# Altium schematic symbol library ECE453_S24.SchLib: 15 symbols
Pins are listed as number, name and electrical type; pins without a type are passive.

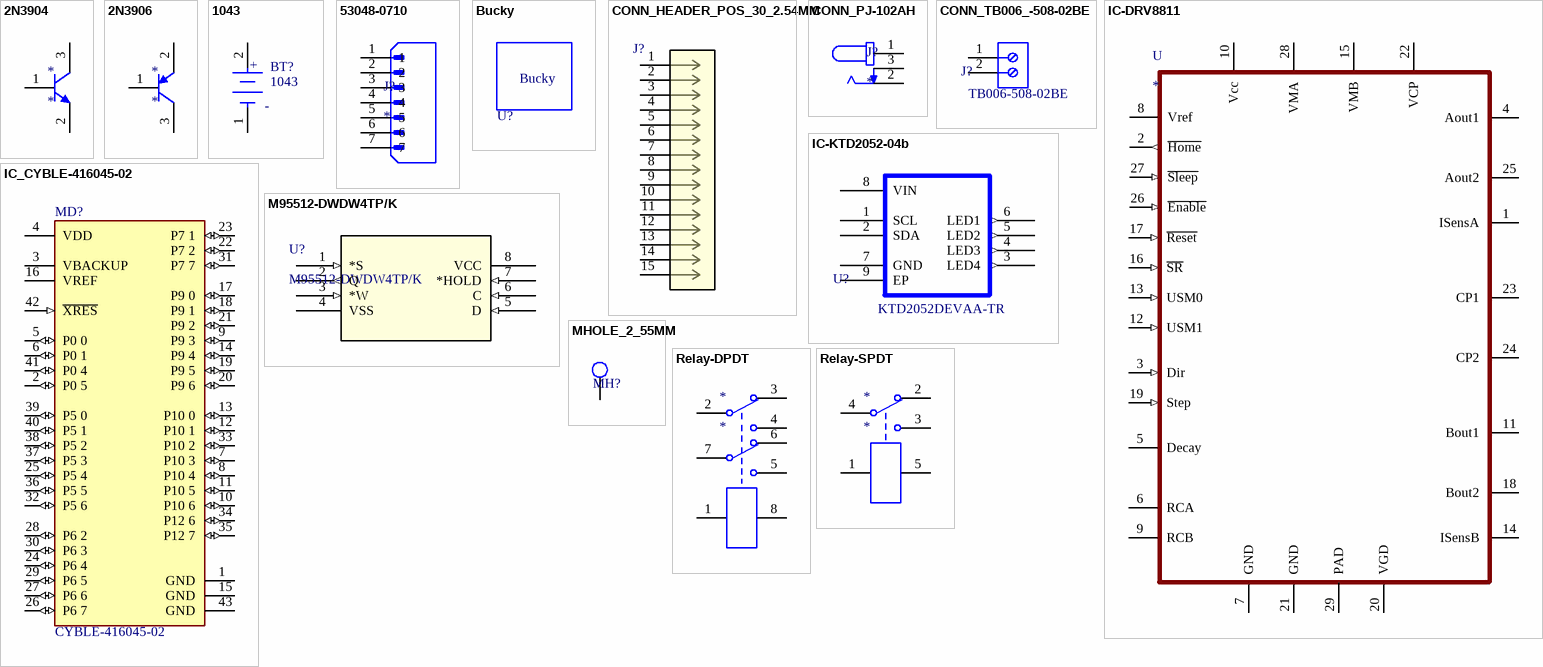
[diagram p0: symbols 2N3904 to Relay-SPDT]

## 2N3904
designator *
40V 300mW 100@10mA, 1V 200mA NPN SOT-23(TO-236) Bipolar Transistors - BJT ROHS; Manufacturer: ON Semiconductor; Manufacturer Part Number: SMMBT3904LT1G; Frequency: 300MHz; hFE Min: 30; Collector Base Voltage (VCBO): 60V; Emitter Base Voltage (VEBO): 6V; Collector Emitter Saturation Voltage: 300mV; Number of Elements: 1; Supplier: Digikey; Supplier Part Number 1: SMMBT3904LT1GOSCT-ND; RoHS: Yes; Category: BJTs; Stock 1: 554579; Pricing 1: 1=0.28, 10=0.191, 100=0.0933, 500=0.07784, 1000=0.05409 (USD); Case/Package: SOT-23-3; Pins: 3; Min Operating Temperature: -55°C; Max Operating Temperature: 150°C; Package Quantity: 3000; Collector Emitter Voltage (VCEO): 40V; Max Power Dissipation: 300mW; Packaging: Tape and Reel; Max Collector Current: 200mA; Transition Frequency: 300MHz; Collector Emitter Breakdown Voltage: 40V; Max Breakdown Voltage: 40V; Polarity: NPN; Power Dissipation: 300mW; Gain Bandwidth Product: 300MHz; Clock Frequency: 300MHz; Series: Automotive, AEC-Q101; Collector-emitter Voltage-Max: 300mV; Length: 3.04mm; Width: 1.4mm; Height: 1.01mm; Radiation Hardening: No; Reach SVHC Compliant: No; RoHS Compliant: Yes; Lead Free: 5697LeadFree; ComponentLink1URL: https://datasheet.ciiva.com/11204/mmbt3904lt1-d-11204919.pdf?src-supplier=Avnet; ComponentLink1Description: https://datasheet.ciiva.com/11204/mmbt3904lt1-d-11204919.pdf?src-supplier=Avnet; ComponentLink2URL: https://datasheet.ciiva.com/29570/mmbt3904lt1-d-29570629.pdf?src-supplier=Digikey; ComponentLink2Description: https://datasheet.ciiva.com/29570/mmbt3904lt1-d-29570629.pdf?src-supplier=Digikey; ComponentLink3URL: https://datasheet.ciiva.com/29570/mmbt3904lt1-d-29570630.pdf?src-supplier=Digikey; ComponentLink3Description: https://datasheet.ciiva.com/29570/mmbt3904lt1-d-29570630.pdf?src-supplier=Digikey
footprint SOT23-3M (SOT23, 3-Leads, Body 2.9x1.3mm, Pitch 0.95mm, Lead Span 2.5mm, IPC Low Density)
pins: 1 B, 2 E, 3 C

## 2N3906
designator *
PNP Ic=-200mA Vceo=-40V hfe=100~300 P=300mW; Manufacturer: ON Semiconductor; Manufacturer Part Number: SMMBT3906LT1G; Max Power Dissipation: 300mW; Max Collector Current: 200mA; Collector Emitter Voltage (VCEO): -40V; Transition Frequency: 250MHz; Collector Emitter Breakdown Voltage: 40V; Emitter Base Voltage (VEBO): 5V; Collector Emitter Saturation Voltage: -250mV; Clock Frequency: 100MHz; Collector-emitter Voltage-Max: 400mV; Supplier: Digikey; Supplier Part Number 1: SMMBT3906LT1GOSCT-ND; RoHS: Yes; Category: BJTs; Stock 1: 117410; Pricing 1: 1=0.29, 10=0.2, 100=0.0978, 500=0.08154, 1000=0.05666 (USD); Case/Package: SOT-23-3; Pins: 3; Min Operating Temperature: -55°C; Max Operating Temperature: 150°C; Package Quantity: 3000; Packaging: Tape and Reel; Polarity: PNP; Collector Base Voltage (VCBO): 40V; Max Breakdown Voltage: 40V; Gain Bandwidth Product: 250MHz; Series: Automotive, AEC-Q101; Length: 3.04mm; Width: 2.64mm; Height: 1.11mm; Radiation Hardening: No; Reach SVHC Compliant: No; Lead Free: Lead Free; RoHS Compliant: Yes; ComponentLink1URL: https://datasheet.ciiva.com/11204/mmbt3906lt1-d-11204922.pdf?src-supplier=Avnet; ComponentLink1Description: https://datasheet.ciiva.com/11204/mmbt3906lt1-d-11204922.pdf?src-supplier=Avnet; ComponentLink2URL: https://datasheet.ciiva.com/980/mmbt3906lt1-d-980808.pdf?src-supplier=Digikey; ComponentLink2Description: https://datasheet.ciiva.com/980/mmbt3906lt1-d-980808.pdf?src-supplier=Digikey
pins: 1 B, 2 E, 3 C

## 1043
designator BT?
Conn Terminal Strip 2 POS Solder Lug ST; Manufacturer 1: Keystone Electronics; Body Material: Nylon; Number of Cells: 1; Supplier: Digi-Key; Supplier Part Number: 36-1043-ND; RoHS: Yes; Category: Passive Components; Stock 1: 3564; Pricing 1: 1=3.00000, 25=2.52400, 100=2.08850, 250=1.92020, 500=1.80144 (USD); Mount: Through Hole,PCB; Number of Pins: 1; Contact Plating: Gold; Material: Nylon; Contact Material: Stainless Steel; Min Operating Temperature: -50°C; Max Operating Temperature: 145°C; Package Quantity: 100; Packaging: Tray; Termination: PC Pin; ComponentLink1URL: https://datasheet.ciiva.com/4/1043-4710.pdf?src-supplier=Digi-Key; ComponentLink1Description: https://datasheet.ciiva.com/4/1043-4710.pdf?src-supplier=Digi-Key; ComponentLink2URL: https://datasheet.ciiva.com/3353/1043-eng-tds-3353208.pdf?src-supplier=Distrelec; ComponentLink2Description: https://datasheet.ciiva.com/3353/1043-eng-tds-3353208.pdf?src-supplier=Distrelec; ComponentLink3URL: https://datasheet.ciiva.com/41803/1043-41803215.pdf?src-supplier=Digi-Key; ComponentLink3Description: https://datasheet.ciiva.com/41803/1043-41803215.pdf?src-supplier=Digi-Key; ComponentLink4URL: https://datasheet.ciiva.com/4642/1043-4642493.pdf?src-supplier=Mouser; ComponentLink4Description: https://datasheet.ciiva.com/4642/1043-4642493.pdf?src-supplier=Mouser; Manufacturer: Keystone Electronics; Manufacturer Part Number: 1043; Stock: 4788; Pricing: 1=2.85, 10=2.62, 25=2.39, 50=2.18, 100=1.97, 500=1.7 (USD); Mounting Technology: Through Hole,PCB; Pins: 1; Series: -; Manufacturer Part Number 1: 1043
footprint Keystone_1043_0
pins: 1 C, 2 A
text: +

## 53048-0710
designator J?
7-Pin 1.25mm Molex Connector; MP: 530480710; Package: None; Price: None; Value: *; Availability: Unavailable
footprint MOLEX_530480710
pins: 1, 2, 3, 4, 5, 6, 7

## Bucky
designator U?  (value not drawn)  (no BOM)
Bucky Badger Image; Manufacturer Part Number: UW Bucky
footprint WalkingBucky

## CONN_HEADER_POS_30_2.54MM
designator J?, comment 68000-115HLF  (value not drawn)
Conn Unshrouded Header HDR 15 POS 2.54mm Solder ST Thru-Hole; Mfr_Name: Amphenol ICC; Manufacturer: Adam Equipment; Manufacturer Part Number: PH1-15-UA; Copyright: Copyright (C) 2024 Ultra Librarian. All rights reserved.; Manufacturer_Part_Number: 68000-115HLF; RefDes: RefDes; Type: DEV; Supplier: Digikey; Supplier Part Number: 2057-PH1-15-UA-ND; RoHS: No; Category: Connectors; Stock: 2835; Pricing: 1=0.18, 10=0.15, 100=0.1157, 500=0.09788, 1000=0.08008, 5000=0.07118, 10000=0.06451 (USD)
footprint CONN_15POS_2P54MM
pins: 1, 2, 3, 4, 5, 6, 7, 8, 9, 10, 11, 12, 13, 14, 15

## CONN_PJ-102AH
designator J?
2.0 x 6.5 mm, 5.0 A, Horizontal, Through Hole, Tapered Pins, Dc Power Jack Connector; Manufacturer: CUI; MF: {'manufacturer': u'CUI Devices'}; MP: PJ-102AH; Number of Conductors: 2; Shielding: Unshielded; Package: None; Price: None; Value: *; Availability: Unavailable; Supplier: Digikey; Supplier Part Number: CP-102AH-ND; Manufacturer Part Number: PJ-102AH; RoHS: Yes; Category: Uncategorized; Stock: 76168; Pricing: 1=0.700000, 10=0.590000, 25=0.566000, 40=0.553750, 200=0.529750, 400=0.481600, 600=0.433430, 1000=0.385280, 2400=0.349160 (USD); Orientation: Horizontal; Packaging: Bulk; Termination: Through Hole; Connector Type: Jack; Diameter: 2.1mm; Lead Free: Lead Free; RoHS Compliant: Yes; ComponentLink1URL: http://www.mouser.com/ds/2/670/PJ-102AH-524179.pdf?src-supplier=Mouser; ComponentLink1Description: http://www.mouser.com/ds/2/670/PJ-102AH-524179.pdf?src-supplier=Mouser; ComponentLink2URL: https://www.cui.com/product/resource/digikeypdf/pj-102ah.pdf?src-supplier=Digikey; ComponentLink2Description: https://www.cui.com/product/resource/digikeypdf/pj-102ah.pdf?src-supplier=Digikey; ComponentLink3URL: http://www.cui.com/Product/Resource/FuturePDF/PJ-102AH.pdf?src-supplier=Future+Electronics; ComponentLink3Description: http://www.cui.com/Product/Resource/FuturePDF/PJ-102AH.pdf?src-supplier=Future+Electronics
footprint CUI_PJ-102AH
pins: 1, 2, 3

## CONN_TB006_-508-02BE
designator J?  Manufacturer Part Number: TB006-508-02BE  (hidden comment: *)
2~24 Poles, Screw Type, Horizontal, 5.08 Pitch, 26~14 (AWG), Terminal Block Connector; MF: CUI Devices; MP: TB006 -508-02BE; CUI_purchase_URL: https://www.cuidevices.com/product/interconnect/connectors/terminal-blocks/tb006-508-series?utm_source=snapeda.com&utm_medium=referral&utm_campaign=snapedaBOM; Value: *; Check_prices: https://www.snapeda.com/parts/TB006%20-508-02BE/CUI+Devices/view-part/?ref=eda; SnapEDA_Link: https://www.snapeda.com/parts/TB006%20-508-02BE/CUI+Devices/view-part/?ref=snap; Availability: In Stock; Package: None; Purchase-URL: https://pricing.snapeda.com/search/part/TB006 -508-02BE/?ref=eda; Price: None; Supplier: Digikey; Supplier Part Number: 102-6191-ND; Manufacturer: CUI Devices; RoHS: Yes; Category: Terminal Blocks; Stock: 47249; Pricing: 1=0.73, 10=0.402, 25=0.3, 50=0.2676, 100=0.2623, 250=0.23084, 500=0.20984, 1000=0.18886, 5000=0.14164 (USD)
footprint CUI_TB006 -508-02BE
pins: 1, 2

## IC-DRV8811
designator U
DRV8811 1.9A Bipolar Stepper Mot; Manufacturer: Texas Instruments; Manufacturer Part Number: DRV8811PWP; Min Supply Voltage: 8V; Max Supply Voltage: 38V; Output Current: 2.5A; Quiescent Current: 8mA; Number of Outputs: 1; Output Voltage: 24V; Max Collector Current: 1.4A; Supplier: Digikey; Supplier Part Number: 296-25379-5-ND; RoHS: Yes; Category: Integrated Circuits (ICs); Stock 1: 6888; Pricing 1: 1=5.1, 10=4.577, 25=4.3268, 100=3.7499, 250=3.55764, 500=3.19224, 1000=2.69226, 2500=2.55764 (USD); Case/Package: HTSSOP; Pins: 28; Weight: 0.00418oz; Min Operating Temperature: -40°C; Max Operating Temperature: 85°C; Packaging: Rail/Tube; Package Quantity: 50; Max Output current: 1.9A; Series: -; Supply Current: 2.5A; Type: Integrated Circuit (IC); Motor Type: Stepper; Length: 9.8mm; Width: 4.5mm; Height: 1.05mm; Radiation Hardening: No; Lead Free: Lead Free; RoHS Compliant: Yes; Reach SVHC Compliant: No; ComponentLink1URL: https://datasheet.ciiva.com/15109/getdatasheetpartid-226283-15109439.pdf?src-supplier=Verical; ComponentLink1Description: https://datasheet.ciiva.com/15109/getdatasheetpartid-226283-15109439.pdf?src-supplier=Verical; ComponentLink2URL: https://datasheet.ciiva.com/1959/drv8811-1959294.pdf?src-supplier=Digikey; ComponentLink2Description: https://datasheet.ciiva.com/1959/drv8811-1959294.pdf?src-supplier=Digikey; ComponentLink3URL: https://datasheet.ciiva.com/1500/1787005-1500613.pdf?src-supplier=Element14; ComponentLink3Description: https://datasheet.ciiva.com/1500/1787005-1500613.pdf?src-supplier=Element14; ComponentLink4URL: https://datasheet.ciiva.com/1501/drv8811-1501538.pdf?src-supplier=Element14; ComponentLink4Description: https://datasheet.ciiva.com/1501/drv8811-1501538.pdf?src-supplier=Element14; ComponentLink5URL: https://datasheet.ciiva.com/1558/drv8811-1558191.pdf?src-supplier=Farnell; ComponentLink5Description: https://datasheet.ciiva.com/1558/drv8811-1558191.pdf?src-supplier=Farnell
footprint PWP0028C_M (SOP, 28-Leads, Body 9.8x4.5mm, Pitch 0.65mm, Thermal Pad 5.18x3.1mm, IPC Low Density)
pins: 1 ISensA, 2 ~{Home} (out), 3 Dir (in), 4 Aout1, 5 Decay, 6 RCA, 7 GND, 8 Vref, 9 RCB, 10 Vcc, 11 Bout1, 12 USM1 (in), 13 USM0 (in), 14 ISensB, 15 VMB, 16 ~{SR} (in), 17 ~{Reset} (in), 18 Bout2, 19 Step (in), 20 VGD, 21 GND, 22 VCP, 23 CP1, 24 CP2, 25 Aout2, 26 ~{Enable} (in), 27 ~{Sleep} (in), 28 VMA, 29 PAD

## IC-KTD2052-04b
designator U?  Manufacturer Part Number: KTD2052DEVAA-TR  (hidden comment: *)
12-CHANNEL RGB LED DRIVER; Manufacturer: Kinetic Technologies; Supplier: Digi-Key; RoHS: No; Category: Uncategorized; Stock 1: 3000; Pricing 1: 1=1.55, 10=1.382, 25=1.312, 100=1.0779, 250=1.00756, 500=0.89042, 1000=0.70296 (USD); Supplier Part Number: 2763-KTD2052DEVAA-TRCT-ND
footprint KTD2052-04b
pins: 1 SCL, 2 SDA, 3 LED4 (out), 4 LED3 (out), 5 LED2 (out), 6 LED1 (out), 7 GND (power), 8 VIN (power), 9 EP (power)

## IC_CYBLE-416045-02
designator MD?, comment CYBLE-416045-02  (no BOM)
RF TXRX MOD BLUETOOTH TRACE ANT; Manufacturer: Cypress Semiconductor; Manufacturer 1: Cypress; Number Of Gpio: 36; Number Of Adc Channels: 1; Max Supply Voltage: 3.6V; Min Supply Voltage: 1.71V; Data Rate: 2Mbits/s; Receiving Current: 6.7mA; Max Frequency: 2.5GHz; Bandwidth: 100MHz; Transmitting Current: 5.7mA; Interface: I2C,SPI,UART,I2S,Other; Octopart: https://octopart.com/cyble-416045-02-cypress+semiconductor-96386825; Lead Free: Yes; RoHS: TRUE; Device Class L3: Transceivers; Category: UNK; Package: 0; Device Class L2: RF Semiconductors and Devices; Automotive: No; ComponentLink2URL: https://www.cypress.com/file/428336/download; Temperature Range Low: -40°C; Height: 2mm; Device Class L1: Integrated Circuits (ICs); Manufacturer Part Number: CYBLE-416045-02; ComponentLink2Description: Datasheet; Digikey Description: RF TXRX MOD BLUETOOTH TRACE ANT; Temperature: -40°C to +85°C; Temperature Range High: +85°C; Supplier: Digi-Key; Supplier Part Number: 428-4622-1-ND; Manufacturer Part Number 1: CYBLE-416045-02; Stock 1: 3441; Pricing 1: 1=16.24000, 10=14.69300, 25=13.53280, 100=12.37280, 250=11.59952 (USD); RoHS Compliant: Yes
footprint FP-CYBLE-416045-02-MFG
pins: 1 GND (power), 2 P0 5 (io), 3 VBACKUP (power), 4 VDD (power), 5 P0 0 (io), 6 P0 1 (io), 7 P10 3 (io), 8 P10 4 (io), 9 P9 3 (io), 10 P10 6 (io), 11 P10 5 (io), 12 P10 1 (io), 13 P10 0 (io), 14 P9 4 (io), 15 GND (power), 16 VREF (power), 17 P9 0 (io), 18 P9 1 (io), 19 P9 5 (io), 20 P9 6 (io), 21 P9 2 (io), 22 P7 2 (io), 23 P7 1 (io), 24 P6 4 (io), 25 P5 4 (io), 26 P6 7 (io), 27 P6 6 (io), 28 P6 2 (io), 29 P6 5 (io), 30 P6 3 (io), 31 P7 7 (io), 32 P5 6 (io), 33 P10 2 (io), 34 P12 6 (io), 35 P12 7 (io), 36 P5 5 (io), 37 P5 3 (io), 38 P5 2 (io), 39 P5 0 (io), 40 P5 1 (io), 41 P0 4 (io), 42 ~{XRES} (in), 43 GND (power)

## M95512-DWDW4TP/K
designator U?
EEPROM Serial-SPI 512K-bit 64K x 8 3.3V/5V Automotive 8-Pin TSSOP T/R; Mfr_Name: STMicroelectronics; Interface: SPI,Serial; Access Time: 25ns; Density: 512Kb; Frequency: 10MHz; Min Supply Voltage: 2.5V; Max Supply Voltage: 5.5V; Max Frequency: 16MHz; Nominal Supply Current: 4mA; Copyright: Copyright (C) 2022 Ultra Librarian. All rights reserved.; Manufacturer_Part_Number: M95512-DWDW4TP/K; RefDes: RefDes; Type: DEV; Supplier 1: Digi-Key; Supplier Part Number 1: 497-14459-1-ND; Manufacturer 1: STMicroelectronics; Manufacturer Part Number 1: M95512-DWDW4TP/K; RoHS: Yes; Category: EEPROM; Stock 1: 11469; Pricing 1: 1=2.30000, 10=2.07100, 25=2.03920, 50=2.03400, 100=1.81740, 250=1.76084 (USD); Mount: Surface Mount; Case/Package: TSSOP; Number of Pins: 8; Min Operating Temperature: -40°C; Max Operating Temperature: 145°C; Packaging: Tape and Reel; Memory Type: EEPROM; Radiation Hardening: No; RoHS Compliant: Yes; ComponentLink1URL: https://datasheet.ciiva.com/29614/dm00046608-29614432.pdf?src-supplier=Digi-Key; ComponentLink1Description: https://datasheet.ciiva.com/29614/dm00046608-29614432.pdf?src-supplier=Digi-Key; ComponentLink2URL: https://datasheet.ciiva.com/48501/dm00046608-48501612.pdf?src-supplier=Avnet; ComponentLink2Description: https://datasheet.ciiva.com/48501/dm00046608-48501612.pdf?src-supplier=Avnet
footprint TSSOP8_169MILS_DW_STM-M
pins: 1 *S (in), 2 Q (out), 3 *W (in), 4 VSS, 5 D (in), 6 C (in), 7 *HOLD (in), 8 VCC (power)

## MHOLE_2_55MM
designator MH?  (value not drawn)
Mounting Holde; Manufacturer Part Number: UW MTHOLE
footprint MHOLE_2_55MM (2.55MM Mounting Hole)
pins: 1

## Relay-DPDT
designator *
Relay Ul Approved Gen Purpose Dp; Manufacturer: CIT Relay & Switch; Manufacturer Part Number: J104B2C3VDC.20S; Supplier: Digikey; Supplier Part Number 1: 2449-J104B2C3VDC.20S-ND; RoHS: No; Category: Power Relays; Stock 1: 4151; Pricing 1: 1=1.6, 10=1.5, 25=1.3332, 50=1.2666, 100=1.1999, 250=1.06656, 500=0.9999, 1000=0.93324, 5000=0.89991 (USD)
footprint CIT-J104
pins: 1, 2, 3, 4, 5, 6, 7, 8

## Relay-SPDT
designator *
Relay Ul Approved Gen Purpose Sp; Manufacturer: CIT Relay & Switch; Manufacturer Part Number: J105D1CS3VDC.45; Supplier: Digikey; Supplier Part Number 1: 2449-J105D1CS3VDC.45-ND; RoHS: No; Category: Power Relays; Stock 1: 3026; Pricing 1: 1=1.48, 10=1.386, 25=1.232, 40=1.1705, 100=1.109, 300=0.98577, 500=0.92416, 1000=0.86254, 4900=0.83173 (USD)
footprint CIT-J105D (Footprint not found)
pins: 1, 2, 3, 4, 5